# Altium schematic symbol library AdafruitSDCard.SchLib: 1 symbol
Pins are listed as number, name and electrical type; pins without a type are passive.

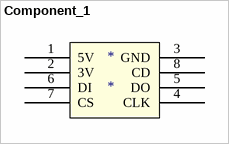
[diagram p0: symbol Component_1]

## Component_1
designator *
footprint Model Name (Model Description)
pins: 1 5V, 2 3V, 3 GND, 4 CLK, 5 DO, 6 DI, 7 CS, 8 CD